# EAGLE library part LM358N (library Fairchild_By_element14_Batch_1)
Dual Operational Amplifier
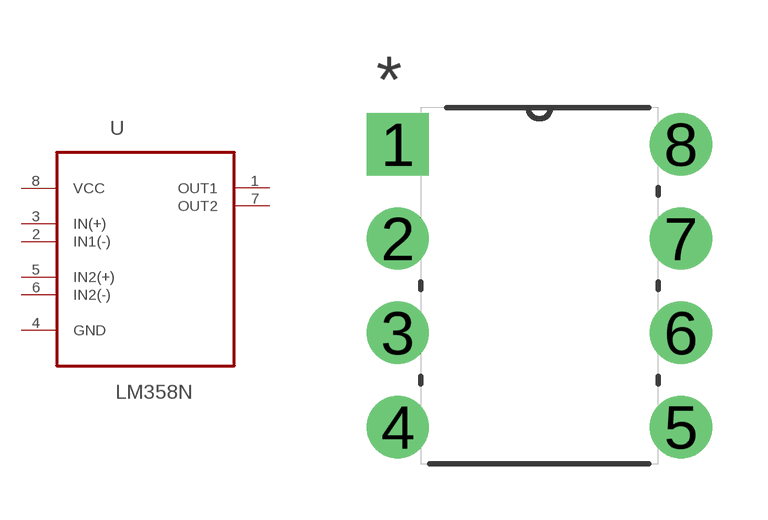
[diagram p216: symbol with the pads of DIP254P762X508-8; footprint DIP254P762X508-8]

Designator prefix U

## LM358N (MPN: LM358N; OC_FARNELL: 9486836; OC_NEWARK: 58K8942; PACKAGE: PDIP; SUPPLIER: FAIRCHILD SEMICONDUCTOR)  [DIP254P762X508-8]
1  OUT1  out
2  IN1(-)  in
3  IN(+)  in
4  GND  pas
5  IN2(+)  in
6  IN2(-)  in
7  OUT2  out
8  VCC  pwr

## Footprint DIP254P762X508-8 (pad centres in mm)
drill 1.118 square: 1 -7.62,7.62
drill 1.118: 2 -7.62,5.08; 3 -7.62,2.54; 4 -7.62,0; 5 0,0; 6 0,2.54; 7 0,5.08; 8 0,7.62